# Altium schematic symbol library Mechanical_Relays_Power_GOST.SchLib: 6 symbols
Pins are listed as number, name and electrical type; pins without a type are passive.

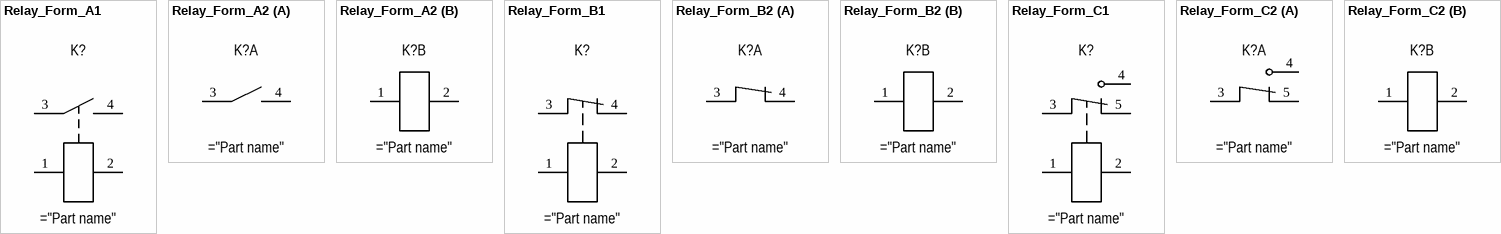
[diagram p0: symbols Relay_Form_A1 to Relay_Form_C2]

## Relay_Form_A1
designator K?
pins: 1, 2, 3, 4

## Relay_Form_A2
designator K?
part A pins: 3, 4
part B pins: 1, 2

## Relay_Form_B1
designator K?
pins: 1, 2, 3, 4

## Relay_Form_B2
designator K?
part A pins: 3, 4
part B pins: 1, 2

## Relay_Form_C1
designator K?
pins: 1, 2, 3, 4, 5

## Relay_Form_C2
designator K?
part A pins: 3, 4, 5
part B pins: 1, 2